# EAGLE library part 540-88-032-17-400 (library SamacSys_Parts)
Preci-Dip 1.27mm Pitch Female PLCC Socket, 32 Way SMT, Tin Plated Contacts 1A Source: Datasheet <http://www.precidip.com/pview/540-88-032-17-400.html>
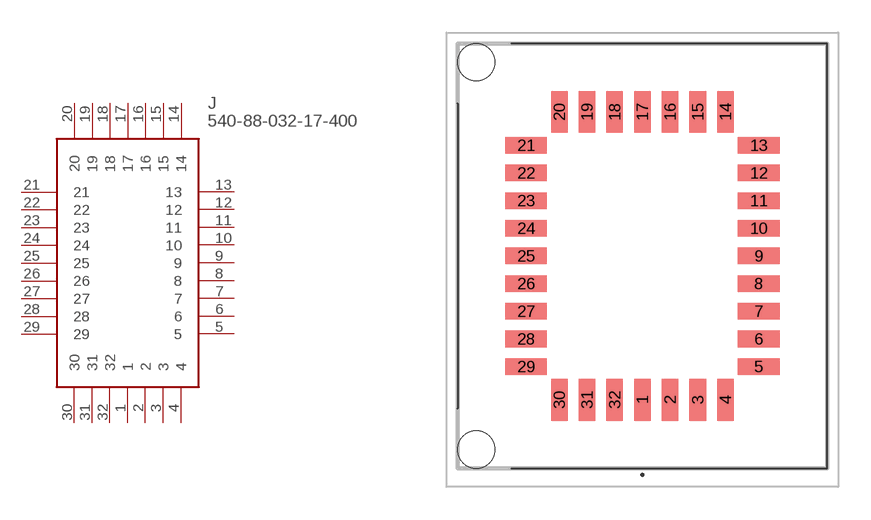
[diagram p168: symbol with the pads of 5408803217400; footprint 5408803217400]

Designator prefix J

## 540-88-032-17-400 (DESCRIPTION: Preci-Dip 1.27mm Pitch Female PLCC Socket, 32 Way SMT, Tin Plated Contacts 1A; HEIGHT: 3.8mm; MANUFACTURER_NAME: Preci-Dip; MANUFACTURER_PART_NUMBER: 540-88-032-17-400; MOUSER_PART_NUMBER: 437-5408803217400; MOUSER_PRICE-STOCK: https://www.mouser.co.uk/ProductDetail/Preci-dip/540-88-032-17-400?qs=uQD7XCvsSCOORYtF8CgjVQ%3D%3D)  [5408803217400]
1  1
2  2
3  3
4  4
5  5
6  6
7  7
8  8
9  9
10  10
11  11
12  12
13  13
14  14
15  15
16  16
17  17
18  18
19  19
20  20
21  21
22  22
23  23
24  24
25  25
26  26
27  27
28  28
29  29
30  30
31  31
32  32

## Footprint 5408803217400 (pad centres in mm)
540-88-032-17-400-1
smd 0.76 x 1.91: 1 0,-6.605; 2 1.27,-6.605; 3 2.54,-6.605; 4 3.81,-6.605; 14 3.81,6.605; 15 2.54,6.605; 16 1.27,6.605; 17 0,6.605; 18 -1.27,6.605; 19 -2.54,6.605; 20 -3.81,6.605; 30 -3.81,-6.605; 31 -2.54,-6.605; 32 -1.27,-6.605
smd 1.91 x 0.76: 5 5.335,-5.08; 6 5.335,-3.81; 7 5.335,-2.54; 8 5.335,-1.27; 9 5.335,0; 10 5.335,1.27; 11 5.335,2.54; 12 5.335,3.81; 13 5.335,5.08; 21 -5.335,5.08; 22 -5.335,3.81; 23 -5.335,2.54; 24 -5.335,1.27; 25 -5.335,0; 26 -5.335,-1.27; 27 -5.335,-2.54; 28 -5.335,-3.81; 29 -5.335,-5.08
hole 1.7 at -7.62,8.89
hole 1.7 at -7.62,-8.89